# Altium footprint library WE-PoEH.PcbLib: 1 footprints
Each footprint in its own frame and in the unit in brackets; x right, y up, seen from the top. Pads: shape width x height; smd on the part's side, far side on the other; paste and mask are expansions set on the pad; w line width, h text height; cw(c..) or ccw(c..) is an arc to the next point about the centre after c.
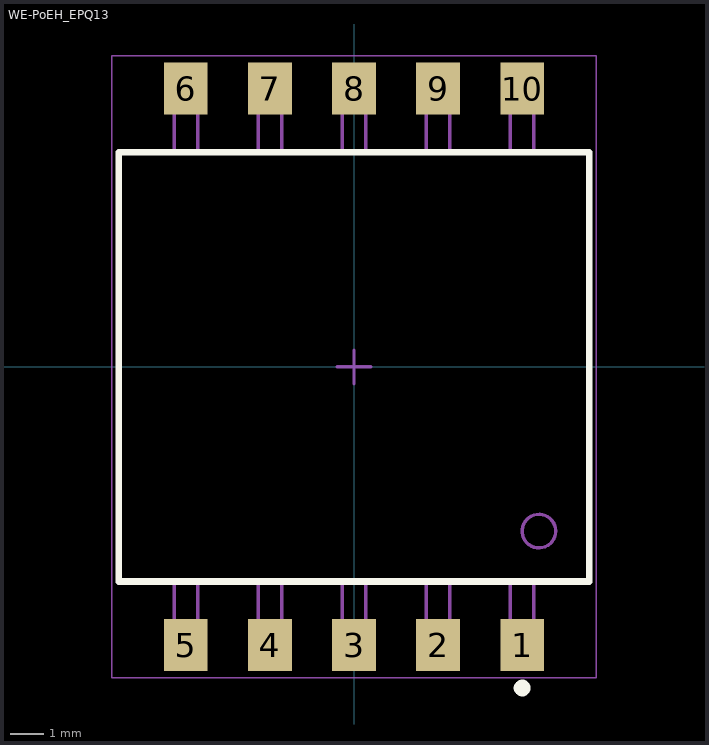
[diagram p0: the footprint, top view; thin cyan lines are the x and y axes]

## WE-PoEH_EPQ13 [mm] "Power over Ethernet High Power Transformer, size EPQ13"
height 14.5
pads (10):
  rect 1.3x1.55 smd: 1(5,-8.275) 2(2.5,-8.275) 3(0,-8.275) 4(-2.5,-8.275) 5(-5,-8.275) 6(-5,8.275) 7(-2.5,8.275) 8(0,8.275) 9(2.5,8.275) 10(5,8.275)
Top Overlay:
  circle w0.25: c5,-9.55 r0.125
  lines w0.2: -7,-6.385 7,-6.385 7,6.385 -7,6.385 -7,-6.385
Top Assembly:
  circle w0.1: c5.5,-4.885 r0.5
  lines w0.1: -5.35,-6.385 -5.35,-8.685 -4.65,-8.685 -4.65,-6.385 ; -5.35,6.385 -5.35,8.685 -4.65,8.685 -4.65,6.385 ; -2.85,-6.385 -2.85,-8.685 -2.15,-8.685 -2.15,-6.385 ; -2.85,6.385 -2.85,8.685 -2.15,8.685 -2.15,6.385 ; -0.35,-6.385 -0.35,-8.685 0.35,-8.685 0.35,-6.385 ; -0.35,6.385 -0.35,8.685 0.35,8.685 0.35,6.385 ; 2.15,-6.385 2.15,-8.685 2.85,-8.685 2.85,-6.385 ; 2.15,6.385 2.15,8.685 2.85,8.685 2.85,6.385 ; 4.65,-6.385 4.65,-8.685 5.35,-8.685 5.35,-6.385 ; 4.65,6.385 4.65,8.685 5.35,8.685 5.35,6.385 ; -7,-6.385 -7,6.385 7,6.385 7,-6.385 -7,-6.385
Top Designator:
  text ".Designator" at -3.647,-0.357 h1
Top Courtyard:
  lines w0.05: -7.2,-9.25 7.2,-9.25 7.2,9.25 -7.2,9.25 -7.2,-9.25
Top Component Center:
  lines w0.1: -0.5,0 0.5,0 ; 0,-0.5 0,0.5
3D body "749119xxxx.stp": height 13.7, standoff 0, extent -6.5,-8.7 6.5,8.7